# Altium footprint library CAN - Rectangle pin arrangement.PcbLib: 2 footprints
Each footprint in its own frame and in the unit in brackets; x right, y up, seen from the top. Pads: shape width x height; smd on the part's side, far side on the other; paste and mask are expansions set on the pad; w line width, h text height; cw(c..) or ccw(c..) is an arc to the next point about the centre after c.
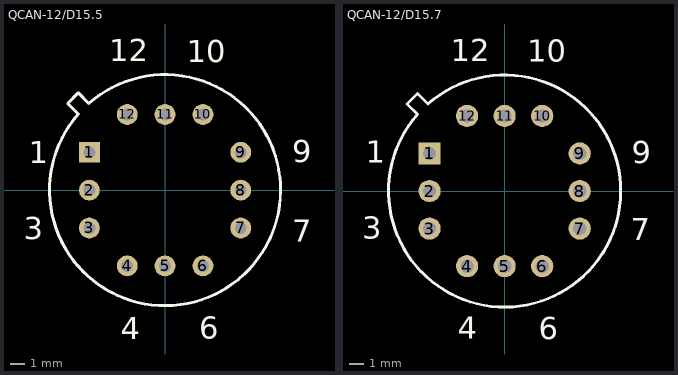
[diagram p0: the footprints below, top view; thin cyan lines are the x and y axes]

## QCAN-12/D15.5 [mm] "Can; 12 Leads; 10.16 mm Square Array; Lead Dia. 0.48 mm (max)"
height 3.81
pads (12):
  rect 1.4x1.4 hole 0.8: 1(-5.08,2.54)
  round 1.4 hole 0.8: 2(-5.08,0) 3(-5.08,-2.54) 4(-2.54,-5.08) 5(0,-5.08) 6(2.54,-5.08) 7(5.08,-2.54) 8(5.08,0) 9(5.08,2.54) 10(2.54,5.08) 11(0,5.08) 12(-2.54,5.08)
Top Overlay:
  lines w0.2: -6.529,5.822 -5.822,5.115 ccw(c0,0) -5.115,5.822 -5.822,6.529 -6.529,5.822
  text "12" at -3.754,8.642 h1.5
  text "10" at 1.446,8.583 h1.5
  text "9" at 8.519,1.867 h1.5
  text "7" at 8.519,-3.453 h1.5
  text "6" at 2.278,-9.96 h1.5
  text "4" at -2.982,-9.99 h1.5
  text "3" at -9.49,-3.304 h1.5
  text "1" at -9.16,1.808 h1.5

## QCAN-12/D15.7 [mm] "Can; 12 Leads; 10.16 mm Square Array; Lead Dia. 0.53 mm (max)"
height 4.6
pads (12):
  rect 1.5x1.5 hole 0.9: 1(-5.08,2.54)
  round 1.5 hole 0.9: 2(-5.08,0) 3(-5.08,-2.54) 4(-2.54,-5.08) 5(0,-5.08) 6(2.54,-5.08) 7(5.08,-2.54) 8(5.08,0) 9(5.08,2.54) 10(2.54,5.08) 11(0,5.08) 12(-2.54,5.08)
Top Overlay:
  lines w0.2: -6.6,5.893 -5.893,6.6 -5.186,5.893 cw(c0,0) -5.893,5.186 -6.6,5.893
  text "1" at -9.398,1.916 h1.5
  text "3" at -9.639,-3.231 h1.5
  text "4" at -3.169,-9.979 h1.5
  text "6" at 2.298,-10.009 h1.5
  text "7" at 8.534,-3.321 h1.5
  text "9" at 8.594,1.886 h1.5
  text "10" at 1.525,8.76 h1.5
  text "12" at -3.64,8.782 h1.5